# Altium schematic symbol library HauptplatineSchLib.SCHLIB: 50 symbols
Pins are listed as number, name and electrical type; pins without a type are passive.

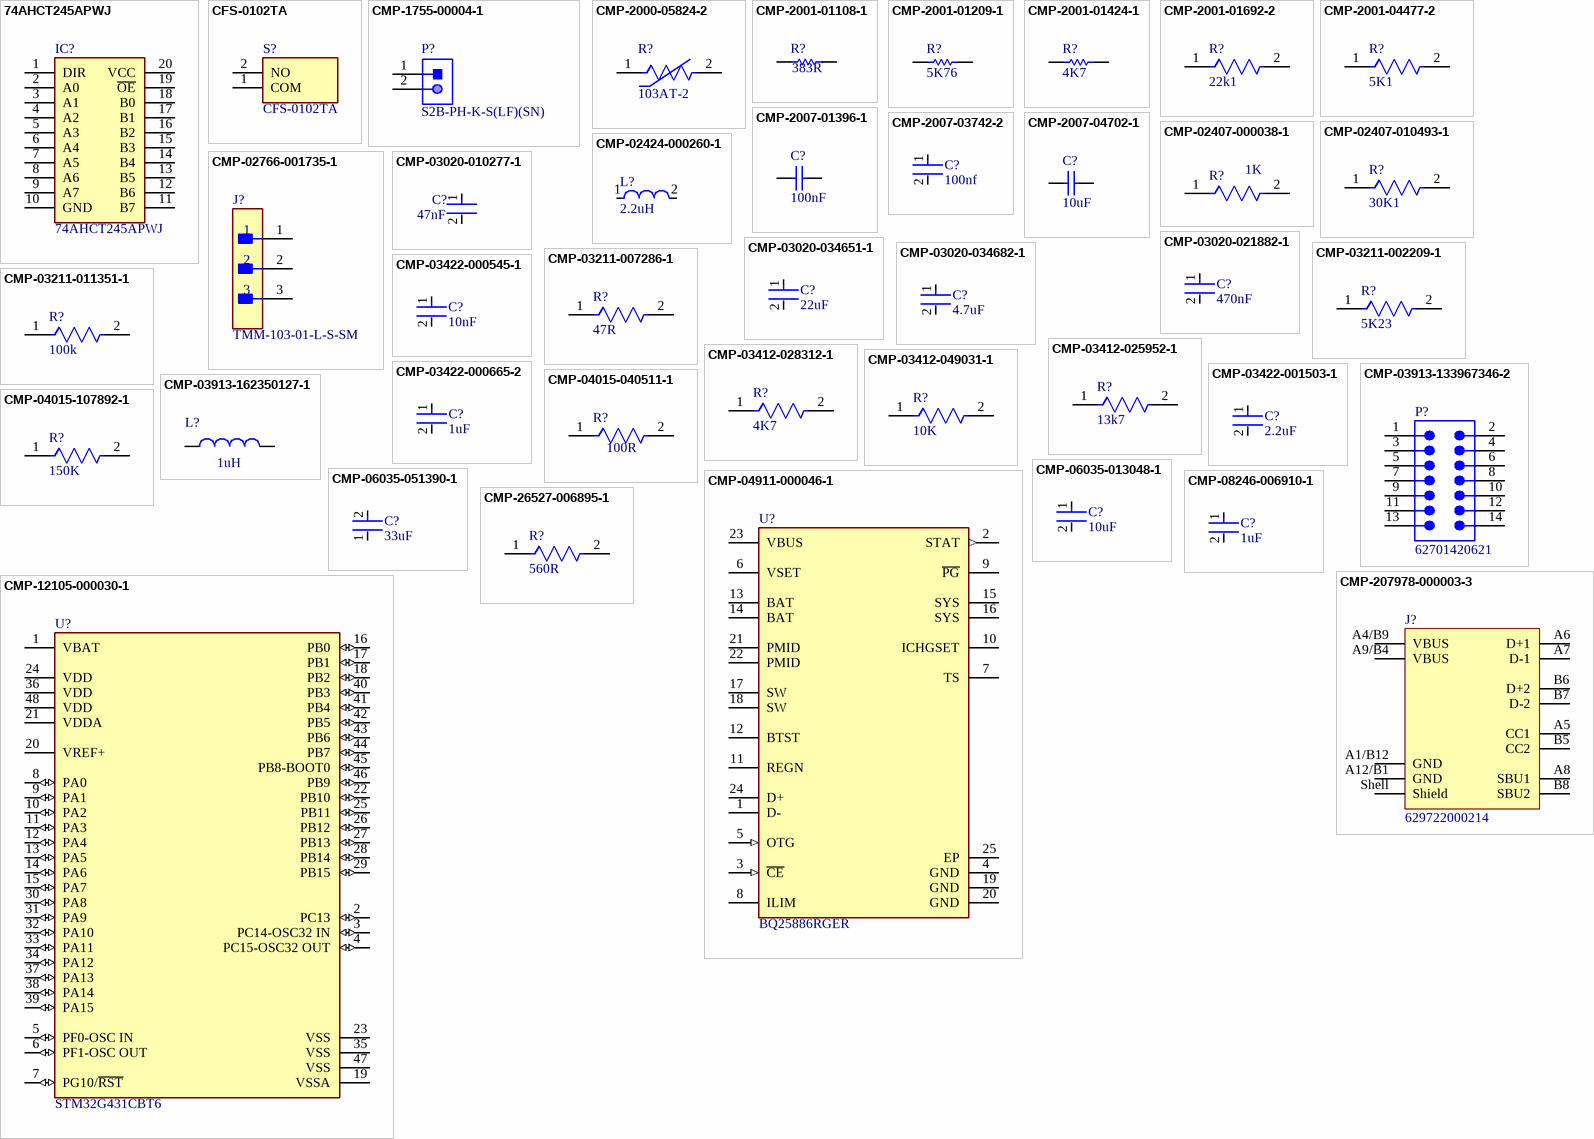
[diagram p0: symbols 74AHCT245APWJ to CMP-207978-000003-3]

## 74AHCT245APWJ
designator IC?
Integrated Circuit; Manufacturer_Name: Nexperia; Datasheet Link: https://assets.nexperia.com/documents/data-sheet/74AHCT245A.pdf; Height: 1.1mm; Manufacturer_Part_Number: 74AHCT245APWJ; Mouser Part Number: 771-74AHCT245APWJ; Mouser Price/Stock: https://www.mouser.co.uk/ProductDetail/Nexperia/74AHCT245APWJ?qs=u4fy%2FsgLU9Nfcswc3zVmFw%3D%3D; Arrow Part Number: 74AHCT245APWJ; Arrow Price/Stock: https://www.arrow.com/en/products/74ahct245apwj/nexperia
footprint SOP65P640X110-20N
pins: 1 DIR, 2 A0, 3 A1, 4 A2, 5 A3, 6 A4, 7 A5, 8 A6, 9 A7, 10 GND, 11 B7, 12 B6, 13 B5, 14 B4, 15 B3, 16 B2, 17 B1, 18 B0, 19 ~{OE}, 20 VCC

## CFS-0102TA
designator S?
Switch; Manufacturer_Name: Nidec Copal; Datasheet Link: https://www.mouser.at/datasheet/2/972/cfs-1628139.pdf; Height: 4.5mm; Manufacturer_Part_Number: CFS-0102TA; Mouser Part Number: 229-CFS-0102TA; Mouser Price/Stock: https://www.mouser.co.uk/ProductDetail/Nidec-Components/CFS-0102TA?qs=XeJtXLiO41Qa%2Fz7Gp%252BxLVg%3D%3D
footprint CFS0102TA
pins: 1 COM, 2 NO

## CMP-1755-00004-1
designator P?, comment S2B-PH-K-S(LF)(SN)
Male Header, Pitch 2 mm, 1 x 2 Position, Height 4.8 mm, Tail Length 3.4 mm, -25 to 85 degC, RoHS, Bulk; Case\Package: Radial; Tolerance: 20%; Capacitance: 10 uF; Voltage Rating (DC): 50 V; Packaging: Bulk; ComponentLink1URL: http://www.jst-mfg.com/product/pdf/eng/ePH.pdf; Radiation Hardening: No; Height: 11 mm; Package Quantity: 200; PackageDescription: Male Header, Pitch 2 mm, 1 x 2 Position, Height 4.8 mm, Tail Length 3.4 mm; PackageReference: S2B-PH-K-S; Diameter: 5 mm; Pins: 2; Mount: Through Hole; Max Operating Temperature: 85 degC; Min Operating Temperature: -40 degC; ComponentLink1Description: Datasheet; DatasheetVersion: Dec-12; Length: 11 mm; Lead Pitch: 2 mm; REACH SVHC: No SVHC; Voltage Rating: 50 V; RoHSCompliant: true
footprint JST-S2B-PH-K-S_V (THD, 2-Leads, Body 7.6x5.9mm, Pitch 2mm)
pins: 1, 2

## CMP-2000-05824-2
designator R?, comment 103AT-2
Thermistor NTC 10KOhm 1% 2-Pin; Resistance: 10kR; Lead Pitch: 2.54mm; Height: 2.4mm; Max Operating Temperature: 110°C; Width: 3.7mm; RoHS Compliant: Yes; Min Operating Temperature: -50°C; Termination: Radial; Packaging: Bulk; Number of Pins: 2; Series: AT; Tolerance: 1%; Length: 17mm
footprint FP-103AT-2-MFG
pins: 1, 2

## CMP-2001-01108-1
designator R?, comment 383R
Part Number: RC0805FR-07383RL; Manufacturer: Yageo
footprint RESC2013X60X35LL10T20 (Chip Resistor, 2-Leads, Body 2.00x1.25mm, IPC High Density)
footprint RESC2013X60X35ML10T20 (Chip Resistor, 2-Leads, Body 2.00x1.25mm, IPC Low Density)
footprint RESC2013X60X35NL10T20 (Chip Resistor, 2-Leads, Body 2.00x1.25mm, IPC Medium Density)
pins: 1, 2
1 alternate drawing of the same symbol

## CMP-2001-01209-1
designator R?, comment 5K76
Part Number: RC0805FR-075K76L; Manufacturer: Yageo
footprint RESC2013X60X35ML10T20 (Chip Resistor, 2-Leads, Body 2.00x1.25mm, IPC Low Density)
footprint RESC2013X60X35LL10T20 (Chip Resistor, 2-Leads, Body 2.00x1.25mm, IPC High Density)
footprint RESC2013X60X35NL10T20 (Chip Resistor, 2-Leads, Body 2.00x1.25mm, IPC Medium Density)
pins: 1, 2
1 alternate drawing of the same symbol

## CMP-2001-01424-1
designator R?, comment 4K7
Manufacturer: Yageo; Part Number: RC0805JR-134K7L
footprint RESC2013X60X35NL10T20 (Chip Resistor, 2-Leads, Body 2.00x1.25mm, IPC Medium Density)
footprint RESC2013X60X35ML10T20 (Chip Resistor, 2-Leads, Body 2.00x1.25mm, IPC Low Density)
footprint RESC2013X60X35LL10T20 (Chip Resistor, 2-Leads, Body 2.00x1.25mm, IPC High Density)
pins: 1, 2
1 alternate drawing of the same symbol

## CMP-2001-01692-2
designator R?, comment 22k1
RES SMD 22.1K OHM 0.1% 1/8W 0805; Manufacturer Part Number: RT0805BRD0722K1L; Manufacturer: Yageo; Temperature Coefficient: 25 ppm/°C; Voltage Rating: 150V; Tolerance: 0.0025; Resistance: 22.1KΩ; Value: 22.1KΩ; Power Rating: 0.125W; Lead Free: Yes; Series: RT; Digikey Description: RES SMD 22.1K OHM 0.1% 1/8W 0805; Mouser Description: Thin Film Resistors - SMD 1/8W 22.1K ohm .1% 25ppm; Device Class L3: Chip SMD Resistors; ComponentLink2URL: http://www.yageo.com/documents/recent/PYu-RT_1-to-0.01_RoHS_L_9.pdf; Octopart: https://octopart.com/rt0805brd0722k1l-yageo-1447960; ComponentLink2Description: Datasheet; Temperature Range High: +155°C; Height: 0.6mm; Composition: Thin Film; Temperature Range Low: -55°C; RoHS: TRUE; Device Class L2: Resistors; Automotive: No; Ipc Land Pattern Name: RESC200125X50; Device Class L1: Passive Components; Temperature: -55°C to +155°C; Category: Res; Package: RT0805; Footprint Url: http://www.yageo.com/exep/pages/download/literatures/PYu-R_Mount_10.pdf
footprint FP-RT0805-MFG
footprint FP-RT0805-IPC_C
footprint FP-RT0805-IPC_B
footprint FP-RT0805-IPC_A
pins: 1, 2

## CMP-2001-04477-2
designator R?, comment 5K1
RES SMD 5.1K OHM 5% 1/8W 0805; Manufacturer: Yageo; Manufacturer Part Number: AC0805JR-075K1L; Automotive Grade: Grade 0; Value: 5.1KΩ; Voltage Rating: 150V; Tolerance: 0.05; Category: Res; RoHS: TRUE; Automotive: Yes; Device Class L1: Passive Components; Lead Free: Yes; Octopart: https://octopart.com/ac0805jr-075k1l-yageo-21711115; Series: AC; Temperature Range High: +155°C; ComponentLink2URL: http://www.yageo.com/documents/recent/PYu-AC_51_RoHS_L_6.pdf; Temperature Range Low: -55°C; ComponentLink2Description: Datasheet; Footprint Url: http://www.yageo.com/exep/pages/download/literatures/PYu-R_Mount_10.pdf; Mouser Description: Thick Film Resistors - SMD 5.1K ohm 5% 1/8W; Device Class L3: Chip SMD Resistors; Digikey Description: RES SMD 5.1K OHM 5% 1/8W 0805; Power Rating: 1/8W; Package: AC0805; Temperature: -55°C to +155°C; Device Class L2: Resistors; Resistance: 5.1KΩ; Height: 0.6mm; Ipc Land Pattern Name: RESC200125X50; Composition: Thick Film
footprint FP-AC0805-MFG
footprint FP-AC0805-IPC_C
footprint FP-AC0805-IPC_B
footprint FP-AC0805-IPC_A
pins: 1, 2

## CMP-2007-01396-1
designator C?, comment 100nF
Part Number: VJ0805Y104JXXPW1BC; Manufacturer: Vitramon
footprint CAPC2013X145X50LL20T20 (Chip Capacitor, 2-Leads, Body 2.00x1.25mm, IPC High Density)
footprint CAPC2013X145X50NL20T20 (Chip Capacitor, 2-Leads, Body 2.00x1.25mm, IPC Medium Density)
footprint CAPC2013X145X50ML20T20 (Chip Capacitor, 2-Leads, Body 2.00x1.25mm, IPC Low Density)
pins: 1, 2
1 alternate drawing of the same symbol

## CMP-2007-03742-2
designator C?, comment 100nf
CAP CER 0.1UF 50V Z5U 0805; Dielectric Material: Ceramic; Tolerance: 20%; Dissipation Factor: 4%; Height: 0.78mm; Dielectric: Z5U; REACH SVHC: No SVHC; Min Operating Temperature: 10°C; Lead Pitch: 0.75mm; Construction: Flat; Mount: Surface Mount; Max Operating Temperature: 85°C; RoHS Compliant: Yes; Width: 1.2mm; Contact Plating: Tin; Thickness: 0.035inch; Series: C; Capacitance: 100nF; Packaging: Tape and Reel; Package Quantity: 1; Voltage Rating (DC): 50V; Termination: SMD/SMT; Voltage: 50V; Case Code (Metric): 2012; Depth: 1.25mm; Radiation Hardening: No; Case/Package: 0805; Length: 2mm; Case Code (Imperial): 0805; Voltage Rating: 50V; Number of Pins: 2; Lead Free: Lead Free
footprint FP-C0805C104M5UACTU-MFG
footprint FP-C0805C104M5UACTU-IPC_C
footprint FP-C0805C104M5UACTU-IPC_B
footprint FP-C0805C104M5UACTU-IPC_A
pins: 1, 2

## CMP-2007-04702-1
designator C?, comment 10uF
Manufacturer: AVX Interconnect / Elco; Part Number: 0805ZC106KAT2A
footprint CAPC2013X140X50ML20T25 (Chip Capacitor, 2-Leads, Body 2.00x1.25mm, IPC Low Density)
footprint CAPC2013X140X50LL20T25 (Chip Capacitor, 2-Leads, Body 2.00x1.25mm, IPC High Density)
footprint CAPC2013X140X50NL20T25 (Chip Capacitor, 2-Leads, Body 2.00x1.25mm, IPC Medium Density)
pins: 1, 2
1 alternate drawing of the same symbol

## CMP-02407-000038-1
designator R?, comment 1K
RES SMD 1K OHM 0.1% 1W 0805; Manufacturer Part Number: PCAN0805E1001BST5; Manufacturer: Vishay; Resistance: 1kΩ; Voltage Rating: 100V; Temperature Coefficient: 25ppm/°C; Value: 1kΩ; Power Rating: 1W; Tolerance: 0.1%; Temperature: -55°C to +155°C; Digikey Description: RES SMD 1K OHM 0.1% 1W 0805; Height: 0.018inch; RoHS: TRUE; Temperature Range Low: -55°C; ComponentLink2Description: Datasheet; Ipc Land Pattern Name: RESC203127X38; Composition: Thin Film; ComponentLink2URL: https://www.vishay.com/docs/60125/pcan.pdf; Lead Free: Yes; Octopart: https://octopart.com/pcan0805e1001bst5-vishay-73274806; Device Class L3: Chip SMD Resistors; Package: PCAN0805; Series: PCAN; Temperature Range High: +155°C; Device Class L1: Passive Components; Automotive: No; Category: Res; Device Class L2: Resistors
footprint FP-PCAN0805-MFG
footprint FP-PCAN0805-IPC_C
footprint FP-PCAN0805-IPC_B
footprint FP-PCAN0805-IPC_A
pins: 1, 2

## CMP-02407-010493-1
designator R?, comment 30K1
RES 1.05K OHM 0.5% 1/5W 0805; Tolerance: 0.1%; Max Power Dissipation: 125mW; Resistance: 30.1kR; Temperature Coefficient: 25ppm/°C; Package Quantity: 1000; Military Standard: Not; Case/Package: 0805; Max Operating Temperature: 125°C; Number of Terminations: 2; Radiation Hardening: No; Composition: Thin Film; Lead Free: Lead Free; Height: 0.022inch; Min Operating Temperature: -55°C; Contact Plating: Tin; Length: 0.079inch; Width: 0.049inch; Depth: 1.25mm; Packaging: Tape and Reel
footprint FP-MCU0805-IPC_C
footprint FP-MCU0805-IPC_A
footprint FP-MCU0805-IPC_B
footprint FP-MCU0805-MFG
pins: 1, 2

## CMP-02424-000260-1
designator L?, comment 2.2uH
Fixed Inductors Commercial Low DCR Series 2.2uH 5A 37.7mΩ 20%; Test Frequency: 100kHz; Self Resonant Frequency: 41MHz; Shielding: Shielded; Saturation Current: 5.5A; DC Resistance (DCR): 37.7mR; Core Material: Metal; RMS Current (Irms): 5A; Case/Package: 2020; Width: 0.204inch; Inductance: 2.2uH; Height - Seated (Max): 0.079inch; Package Quantity: 2000; Length: 5.74mm; Inductance Tolerance: 20%; Tolerance: 20%; Height: 2mm; Min Operating Temperature: -55°C; Termination: SMD/SMT; Current Rating: 5A; Mount: Surface Mount; Max DC Current: 5.5A; Packaging: Tape and Reel; Number of Pins: 2; Max Operating Temperature: 125°C; Depth: 5.43mm; Military Standard: Not; Radiation Hardening: No; Contact Plating: Tin; Lead Free: Lead Free
footprint FP-IHLP-2020BZ-FP_1_905x2-MFG
pins: 1, 2

## CMP-02766-001735-1
designator J?, comment TMM-103-01-L-S-SM
CONN HEADER SMD 3POS 2MM; Number of Positions: 3; Max Current Rating: 3.9A; Gender: Male; Max Voltage Rating (AC): 500V; Packaging: Bulk; Housing Color: Black; Connector Type: Header; Min Operating Temperature: -55°C; Contact Plating: Gold; Radiation Hardening: No; Insulation Color: Black; Housing Material: Polymer; Contact Shape: Square; Max Operating Temperature: 125°C; Fastening Type: Pull; Termination: Solder; Depth: 1.97mm; Series: TMM; Number of Contacts: 3; Contact Material: Bronze; RoHS Compliant: Yes; REACH SVHC: No SVHC; Contact Type: Male Pin; Pitch: 2mm; Insulation Material: Polymer; Lead Free: Lead Free; Orientation: Straight; Flammability Rating: UL94 V-0; Length: 6mm; Number of Rows: 1; Contact Finish - Mating: GOLD
footprint FP-TMM-103-01-L-S-SM-MFG
pins: 1, 2, 3

## CMP-03020-010277-1
designator C?, comment 47nF
CAP CER 0.047UF 50V X8R 1206; Manufacturer: KEMET; Manufacturer Part Number: C1206C473K5HACTU; Temperature Coefficient: 15%; Value: 47,000 pF; Tolerance: 0.1; Automotive Grade: Grade 0; Material: Ceramic; Mouser Description: Multilayer Ceramic Capacitors MLCC - SMD/SMT 50V 47000pF +/-10% X8R; Temperature: -55°C to +150°C; Digikey Description: CAP CER 0.047UF 50V X8R 1206; Package: C1206C-EB; Automotive: Yes; Category: Cap; ComponentLink2Description: Datasheet; Capacitance: 47,000 pF; Device Class L3: Ceramic Capacitors; ComponentLink2URL: https://content.kemet.com/datasheets/KEM_C1007_X8R_ULTRA_150C_SMD.pdf; Device Class L1: Passive Components; Temperature Range Low: -55°C; Device Class L2: Capacitors; RoHS: TRUE; Voltage Rating: 50 V; Octopart: https://octopart.com/c1206c473k5hactu-kemet-12793246; Temperature Range High: +150°C; Ipc Land Pattern Name: CAPC320160X78; Lead Free: Yes; Temperature Characteristic: X8R; Height: 0.88mm
footprint FP-C1206C-EB-MFG
footprint FP-C1206C-EB-IPC_C
footprint FP-C1206C-EB-IPC_B
footprint FP-C1206C-EB-IPC_A
pins: 1, 2

## CMP-03020-021882-1
designator C?, comment 470nF
CAP CER 0.47UF 25V X7R 0805; Manufacturer: KEMET; Manufacturer Part Number: C0805C474J3RACAUTO; Value: 0.47 μF; Tolerance: 0.05; Material: Ceramic; Temperature Coefficient: 30ppm/°C; Temperature Characteristic: X7R; Temperature: -55°C to +125°C; Category: Cap; Temperature Range Low: -55°C; Ipc Land Pattern Name: CAPC200125X78; Temperature Range High: +125°C; Device Class L2: Capacitors; ComponentLink2URL: https://content.kemet.com/datasheets/KEM_C1003_C0G_SMD.pdf; Height: 0.88mm; Package: C0805C-DN; Device Class L1: Passive Components; Capacitance: 0.47 μF; Lead Free: Yes; Octopart: https://octopart.com/c0805c474j3racauto-kemet-20760776; Device Class L3: Ceramic Capacitors; Automotive: No; ComponentLink2Description: Datasheet; Voltage Rating: 25 V; Digikey Description: CAP CER 0.47UF 25V X7R 0805; RoHS: TRUE
footprint FP-C0805C-DN-MFG
footprint FP-C0805C-DN-IPC_C
footprint FP-C0805C-DN-IPC_B
footprint FP-C0805C-DN-IPC_A
pins: 1, 2

## CMP-03020-034651-1
designator C?, comment 22uF
CAP CER 22UF 16V X7R 1210; Dielectric Material: Ceramic; Tolerance: 10%; Dissipation Factor: 5%; Case Code (Imperial): 1210; Capacitance: 22uF; Height: 2.5mm; Termination: SMD/SMT; Package Quantity: 1000; Voltage Rating (DC): 16V; Voltage: 16V; Depth: 2.5mm; Case Code (Metric): 3225; Mount: Surface Mount; Packaging: Cut Tape; Dielectric: X7R; Length: 3.2mm; REACH SVHC: No SVHC; Case/Package: 1210; Min Operating Temperature: -55°C; Voltage Rating: 16V; Max Operating Temperature: 125°C; Weight: 0.000564oz; Width: 0.098inch; Thickness: 0.11inch
footprint FP-C1210C226K4RACTU-MFG
footprint FP-C1210C226K4RACTU-IPC_C
footprint FP-C1210C226K4RACTU-IPC_B
footprint FP-C1210C226K4RACTU-IPC_A
pins: 1, 2

## CMP-03020-034682-1
designator C?, comment 4.7uF
CAP CER 0805 4.7UF 25V X7R  10%; RoHS Compliant: Yes
footprint FP-C0805C475K3RACAUTO-MFG
footprint FP-C0805C475K3RACAUTO-IPC_C
footprint FP-C0805C475K3RACAUTO-IPC_B
footprint FP-C0805C475K3RACAUTO-IPC_A
pins: 1, 2

## CMP-03211-002209-1
designator R?, comment 5K23
RP73P 0805 5.23KΩ 0.25W 25ppm/°C 0.10% 150V; Manufacturer: TE Connectivity; Manufacturer Part Number: RP73PF2A5K23BTDF; Tolerance: 0.001; ComponentLink2URL: https://www.te.com/commerce/DocumentDelivery/DDEController?Action=srchrtrv&DocNm=1773272&DocType=DS&DocLang=English; Device Class L1: Passive Components; Device Class L2: Resistors; Lead Free: Yes; Temperature Range High: +155°C; Series: RP73P; Resistance: 5.23KΩ; ComponentLink2Description: Datasheet; Composition: Thin Film; Octopart: https://octopart.com/rp73pf2a5k23btdf-te+connectivity-45467027; Device Class L3: Chip SMD Resistors; Temperature Coefficient: 25ppm/°C; Category: Res; Temperature: -55°C to +155°C; Automotive: No; Temperature Range Low: -55°C; Package: RP73P-2A; Ipc Land Pattern Name: RESC200125X55; Voltage Rating: 150V; Power Rating: 0.25W; Height: 0.65mm; RoHS: TRUE; Value: 5.23KΩ
footprint FP-RP73P-2A-MFG
footprint FP-RP73P-2A-IPC_C
footprint FP-RP73P-2A-IPC_B
footprint FP-RP73P-2A-IPC_A
pins: 1, 2

## CMP-03211-007286-1
designator R?, comment 47R
CRGP1206 47Ω 0.5W ±100ppm/°C 1% 200V; Manufacturer Part Number: CRGP1206F47R; Manufacturer: TE; Tolerance: 0.01; RoHS: TRUE; Value: 47Ω; Voltage Rating: 200V; Temperature: -55°C to +155°C; Mouser Description: SMD Precision Pulse Thick Film Chip Resistor; Temperature Coefficient: ±100ppm/°C; Power Rating: 0.5W; Device Class L1: Passive Components; Ipc Land Pattern Name: RESC310155X55; Composition: Thick Film; ComponentLink2URL: https://www.mouser.com/datasheet/2/418/NG_DS_9-1773463-9_A-1358566.pdf; Ambient Temperature Range High: +70°C; Lead Free: Yes; Temperature Range Low: -55°C; Resistance: 47Ω; Octopart: https://octopart.com/crgp1206f47r-te+connectivity-91018885; Temperature Range High: +155°C; Automotive: No; Height: 0.65mm; Device Class L2: Resistors; Package: CRGP1206; Category: Res; ComponentLink2Description: Datasheet; Device Class L3: Chip SMD Resistors; Series: CRGP
footprint FP-CRGP1206-IPC_C
footprint FP-CRGP1206-IPC_B
footprint FP-CRGP1206-IPC_A
pins: 1, 2

## CMP-03211-011351-1
designator R?, comment 100k
RQ73 0805 100KΩ 0.2W 10ppm/°C 0.1% 100V
footprint FP-RQ73C2A-IPC_B
footprint FP-RQ73C2A-IPC_A
footprint FP-RQ73C2A-IPC_C
pins: 1, 2

## CMP-03412-025952-1
designator R?, comment 13k7
RES 13.7K OHM 1/8W .1% SMD 0805; Manufacturer Part Number: RT0805BRD0713K7L; Manufacturer: Yageo; Power Rating: 0.125W; Tolerance: 0.0025; Value: 13.7KΩ; Voltage Rating: 150V; Temperature Coefficient: 25 ppm/°C; Device Class L3: Chip SMD Resistors; Temperature Range High: +155°C; Digikey Description: RES 13.7K OHM 1/8W .1% SMD 0805; ComponentLink2Description: Datasheet; Package: RT0805; RoHS: TRUE; ComponentLink2URL: http://www.yageo.com/documents/recent/PYu-RT_1-to-0.01_RoHS_L_9.pdf; Automotive: No; Lead Free: Yes; Device Class L1: Passive Components; Temperature: -55°C to +155°C; Category: Res; Ipc Land Pattern Name: RESC200125X50; Octopart: https://octopart.com/rt0805brd0713k7l-yageo-1409410; Height: 0.6mm; Resistance: 13.7KΩ; Footprint Url: http://www.yageo.com/exep/pages/download/literatures/PYu-R_Mount_10.pdf; Series: RT; Temperature Range Low: -55°C; Composition: Thin Film; Mouser Description: Thin Film Resistors - SMD 1/8W 13.7K ohm .1% 25ppm; Device Class L2: Resistors
footprint FP-RT0805-MFG
footprint FP-RT0805-IPC_C
footprint FP-RT0805-IPC_B
footprint FP-RT0805-IPC_A
pins: 1, 2

## CMP-03412-028312-1
designator R?, comment 4K7
RES SMD 47K OHM 1% 1/8W 0805; Manufacturer Part Number: RT0805FRD0747KL; Manufacturer: Yageo; Resistance: 47KΩ; Voltage Rating: 150V; Power Rating: 0.125W; Tolerance: 0.0001; Temperature Coefficient: 25 ppm/°C; Value: 47KΩ; Footprint Url: http://www.yageo.com/exep/pages/download/literatures/PYu-R_Mount_10.pdf; Series: RT; Ipc Land Pattern Name: RESC200125X50; Device Class L3: Chip SMD Resistors; Digikey Description: RES SMD 47K OHM 1% 1/8W 0805; ComponentLink2URL: http://www.yageo.com/documents/recent/PYu-RT_1-to-0.01_RoHS_L_9.pdf; Octopart: https://octopart.com/rt0805frd0747kl-yageo-71400071; Device Class L2: Resistors; Temperature Range Low: -55°C; Composition: Thin Film; RoHS: TRUE; Automotive: No; ComponentLink2Description: Datasheet; Package: RT0805; Temperature Range High: +155°C; Lead Free: Yes; Category: Res; Temperature: -55°C to +155°C; Device Class L1: Passive Components; Height: 0.6mm
footprint FP-RT0805-MFG
footprint FP-RT0805-IPC_C
footprint FP-RT0805-IPC_B
footprint FP-RT0805-IPC_A
pins: 1, 2

## CMP-03412-049031-1
designator R?, comment 10K
Thin Film Chip Resistors Automotive Grade 10kΩ 0.5% 50ppm/°C 0805; Max Power Dissipation: 125mW; Resistance: 10kR; Ratings: AEC-Q200; Length: 0.079inch; Temperature Coefficient: 50ppm/°C; Height: 0.024inch; Min Operating Temperature: -55°C; Case/Package: 0805; Tolerance: 0.5%; RoHS Compliant: Yes; Features: Moisture Resistant; Number of Terminations: 2; Max Operating Temperature: 155°C; Series: AT; Packaging: Tape and Reel; Width: 0.049inch; Resistor Type: Thin Film
footprint FP-AT0805-MFG
footprint FP-AT0805-IPC_C
footprint FP-AT0805-IPC_B
footprint FP-AT0805-IPC_A
pins: 1, 2

## CMP-03422-000545-1
designator C?, comment 10nF
AC Series 0805 10 nF 100 V ±10% X7R Multilayer Ceramic Capacitor; Manufacturer: Yageo; Manufacturer Part Number: AC0805KRX7R0BB103; Temperature Coefficient: 15%; Automotive Grade: Grade 1; Tolerance: 0.1; Voltage Rating: 100 V; Capacitance: 10 nF; Lead Free: Yes; RoHS: TRUE; Temperature Range Low: -55°C; ComponentLink2URL: http://www.yageo.com/documents/recent/UPY-AC_NP0X7R_16V-to-630V_12.pdf; Ipc Land Pattern Name: CAPC200125X85; Footprint Url: http://www.yageo.com/exep/pages/download/literatures/UPY-C_GEN_24.pdf; Octopart: https://octopart.com/ac0805krx7r0bb103-yageo-75656636; Temperature Characteristic: X7R; Value: 10 nF; Device Class L2: Capacitors; Package: AC0805-0.85; Device Class L1: Passive Components; Category: Cap; Temperature: -55°C to +125°C; ComponentLink2Description: Datasheet; Mouser Description: AC Series 0805 10 nF 100 V ±10% X7R Multilayer Ceramic Capacitor; Automotive: Yes; Digikey Description: AC Series 0805 10 nF 100 V ±10% X7R Multilayer Ceramic Capacitor; Device Class L3: Ceramic Capacitors; Material: Ceramic; Temperature Range High: +125°C; Height: 0.95mm
footprint FP-AC0805-0_85-MFG
footprint FP-AC0805-0_85-IPC_C
footprint FP-AC0805-0_85-IPC_B
footprint FP-AC0805-0_85-IPC_A
pins: 1, 2

## CMP-03422-000665-2
designator C?, comment 1uF
CAP CER 1UF 6.3V X7R 0805; Tolerance: 10%; Capacitance: 1uF; Weight: 0.000194oz; Width: 0.049inch; Thickness: 0.057inch; Dielectric: X7R; Termination: SMD/SMT; Packaging: Tape and Reel; RoHS Compliant: Yes; Length: 2mm; Halogen Free: Halogen Free; Voltage Rating: 6.3V; Height: 1.25mm; Max Operating Temperature: 125°C; Depth: 1.25mm; Construction: Flat; Case Code (Metric): 2012; Series: CC; Case/Package: 0805; Resistor Type: Ceramic; Case Code (Imperial): 0805; Min Operating Temperature: -55°C; Voltage Rating (DC): 6.3V; Lead Free: Lead Free; Mount: Surface Mount; Radiation Hardening: No
footprint FP-CC0805-EB-MFG
footprint FP-CC0805-EB-IPC_C
footprint FP-CC0805-EB-IPC_B
footprint FP-CC0805-EB-IPC_A
pins: 1, 2

## CMP-03422-001503-1
designator C?, comment 2.2uF
CAP CER 1210; Dielectric: X7R; Tolerance: 10%; Depth: 2.5mm; Max Operating Temperature: 125°C; Capacitance: 2.2uF; RoHS Compliant: Yes; Length: 3.2mm; Min Operating Temperature: -55°C; Case/Package: 1210; Packaging: Tape and Reel
footprint FP-CC1210-G3-MFG
footprint FP-CC1210-G3-IPC_C
footprint FP-CC1210-G3-IPC_B
footprint FP-CC1210-G3-IPC_A
pins: 1, 2

## CMP-03913-133967346-2
designator P?, comment 62701420621
Conn, Hdr, 14Pos, 2Row, 1.27Mm, Smt Rohs Compliant: Yes; Current Rating: 1A; Insulation Resistance: 1GΩ; Max Operating Temperature: 105°C; Min Operating Temperature: -40°C; Number of Pins: 14; RoHS: Compliant; Pitch: 1.27mm; Length: 13.64mm
footprint 62701420621
pins: 1, 2, 3, 4, 5, 6, 7, 8, 9, 10, 11, 12, 13, 14

## CMP-03913-162350127-1
designator L?, comment 1uH
Power Ind, 1UH, 5.8A, Shielded, 1210 Rohs Compliant: Yes
footprint WE-PMFI_322512
pins: 1, 2

## CMP-04015-040511-1
designator R?, comment 100R
100Ω ±0.1% 0.125W, 1/8W Chip Resistor 0805 (2012 Metric) Moisture Resistant Thin Film
footprint FP-RN73R2A-IPC_A
footprint FP-RN73R2A-IPC_B
footprint FP-RN73R2A-MFG
footprint FP-RN73R2A-IPC_C
pins: 1, 2

## CMP-04015-107892-1
designator R?, comment 150K
150kΩ ±1% 0.25W Chip Resistor 0805 Thick Film AEC-Q200 Qualified; Resistance: 150kR; Power Rating: 125mW; Voltage Rating: 150V; Temperature Coefficient: 100ppm/°C; Tolerance: 1%; Series: RK73H; Max Operating Temperature: 155°C; Min Operating Temperature: -55°C; Termination: SMD/SMT; Case/Package: 0805; Lead Free: Lead Free; Case Code (Imperial): 0805; Packaging: Tape and Reel; Voltage Rating (DC): 150V; RoHS Compliant: Yes; Case Code (Metric): 2012
footprint FP-RK73H2A-IPC_B
footprint FP-RK73H2A-IPC_A
footprint FP-RK73H2A-IPC_C
footprint FP-RK73H2A-MFG
pins: 1, 2

## CMP-04911-000046-1
designator U?, comment BQ25886RGER
PWR MGMT BATTERY MGMT
footprint FP-RGE0024H-IPC_C
footprint FP-RGE0024H-MFG
footprint FP-RGE0024H-IPC_A
footprint FP-RGE0024H-IPC_B
pins: 1 D-, 2 STAT (out), 3 ~{CE} (in), 4 GND (power), 5 OTG (in), 6 VSET, 7 TS, 8 ILIM, 9 ~{PG} (oc), 10 ICHGSET, 11 REGN (power), 12 BTST (power), 13 BAT (power), 14 BAT (power), 15 SYS (power), 16 SYS (power), 17 SW (power), 18 SW (power), 19 GND (power), 20 GND (power), 21 PMID (power), 22 PMID (power), 23 VBUS (power), 24 D+, 25 EP (power)

## CMP-06035-013048-1
designator C?, comment 10uF
Chip Multilayer Ceramic Capacitors for General Purpose, 0805, 10uF, X5R, 15%, 20%, 25V; Max Operating Temperature: 85°C; Package Quantity: 3000; Case/Package: 0805; Depth: 1.25mm; Case Code (Imperial): 0805; Termination: SMD/SMT; Width: 0.049inch; Packaging: Tape and Reel; Tolerance: 20%; Height: 1.25mm; Min Operating Temperature: -55°C; Capacitance: 10uF; Weight: 0.000335oz; Voltage Rating (DC): 25V; Dielectric: X5R; Length: 2mm; Thickness: 0.055inch; Voltage Rating: 25V; Resistor Type: Ceramic; Lead Free: Lead Free; Case Code (Metric): 2012; Mount: Surface Mount; REACH SVHC: No SVHC
footprint FP-GRM21B-0_15-IPC_A
footprint FP-GRM21B-0_15-MFG
footprint FP-GRM21B-0_15-IPC_B
footprint FP-GRM21B-0_15-IPC_C
pins: 1, 2

## CMP-06035-051390-1
designator C?, comment 33uF
Cap Ceramic 33uF 25V X7R ±10% SMD 2220 +125°C Emboss T/R
footprint FP-KRM55Q-6_1_5_3_3_9_1_2-MFG
pins: 1, 2

## CMP-08246-006910-1
designator C?, comment 1uF
Cap Ceramic 1uF 16V X7R 10% Pad SMD 0805 +125°C Automotive T/R; Package Quantity: 2000; Min Operating Temperature: -55°C; Dielectric: X7R; Height: 1.25mm; Voltage Rating (DC): 16V; Thickness: 0.049inch; Case Code (Metric): 2012; Mount: Surface Mount; Width: 0.049inch; Case/Package: 0805; Voltage Rating: 16V; Packaging: Tape and Reel; Capacitance: 1uF; RoHS Compliant: Yes; Length: 0.079inch; Ratings: AEC-Q200; Max Operating Temperature: 125°C; Weight: 0.000194oz; Series: CGA; Case Code (Imperial): 0805; Tolerance: 10%
footprint FP-CGA4J-MFG
footprint FP-CGA4J-IPC_C
footprint FP-CGA4J-IPC_A
footprint FP-CGA4J-IPC_B
pins: 1, 2

## CMP-12105-000030-1
designator U?, comment STM32G431CBT6
MAINSTREAM ARM CORTEX-M4+ MCU 17; Manufacturer: STMicroelectronics; Number Of Adc Channels: 17; Number Of I/Os: 38; Standoff Height: 0.05mm; Number Of Usb Channels: 1; Data Bus Width: 32bits; Number Of I2C Channels: 3; Number Of Pwm Channels: 31; Frequency: 170MHz; Memory Type: FLASH; Number Of Timers/Counters: 14; Ram Size: 32KBytes; Max Junction Temp: +105°C; Memory Size: 128KBytes; Min Supply Voltage: 1.62V; Max Supply Voltage: 3.6V; Number Of Uart Channels: 4; Interface: I2C,SPI,UART,USART,CAN,USB,LIN,IrDA,I2S; Temperature Range Low: -40°C; Lead Free: Yes; Device Class L3: Microcontrollers; Number Of Cores: 1; Temperature Range High: +85°C; Height: 1.6mm; Digikey Description: MAINSTREAM ARM CORTEX-M4+ MCU 17; Device Class L1: Integrated Circuits (ICs); Package: LQFP48-5B; RoHS: TRUE; Number Of A/D Converters: 1; Core Architecture: Arm Cortex-M4; Device Class L2: Embedded Processors and Controllers; ComponentLink2Description: Datasheet; Temperature: -40°C to +85°C; Ambient Temperature Range High: +85°C; Ambient Temperature Range Low: -40°C; Octopart: https://octopart.com/stm32g431cbt6-stmicroelectronics-98835224; ComponentLink2URL: https://www.st.com/resource/en/datasheet/stm32g431cb.pdf; Automotive: No; Number Of Spi Channels: 3; Manufacturer Part Number: STM32G431CBT6; Category: IC
footprint FP-LQFP48-5B-MFG
footprint FP-LQFP48-5B-IPC_C
footprint FP-LQFP48-5B-IPC_B
footprint FP-LQFP48-5B-IPC_A
pins: 1 VBAT (power), 2 PC13 (io), 3 PC14-OSC32 IN (io), 4 PC15-OSC32 OUT (io), 5 PF0-OSC IN (io), 6 PF1-OSC OUT (io), 7 PG10/~{RST} (io), 8 PA0 (io), 9 PA1 (io), 10 PA2 (io), 11 PA3 (io), 12 PA4 (io), 13 PA5 (io), 14 PA6 (io), 15 PA7 (io), 16 PB0 (io), 17 PB1 (io), 18 PB2 (io), 19 VSSA (power), 20 VREF+ (power), 21 VDDA (power), 22 PB10 (io), 23 VSS (power), 24 VDD (power), 25 PB11 (io), 26 PB12 (io), 27 PB13 (io), 28 PB14 (io), 29 PB15 (io), 30 PA8 (io), 31 PA9 (io), 32 PA10 (io), 33 PA11 (io), 34 PA12 (io), 35 VSS (power), 36 VDD (power), 37 PA13 (io), 38 PA14 (io), 39 PA15 (io), 40 PB3 (io), 41 PB4 (io), 42 PB5 (io), 43 PB6 (io), 44 PB7 (io), 45 PB8-BOOT0 (io), 46 PB9 (io), 47 VSS (power), 48 VDD (power)

## CMP-26527-006895-1
designator R?, comment 560R
560Ω ±5% 0.125W 0805 Thick Film Chip Resistor AEC-Q200 compliant; Temperature Coefficient: 200ppm/°C; Max Power Dissipation: 125mW; Resistance: 560R; RoHS Compliant: Yes; Military Standard: Not; Case Code (Imperial): 0805; Length: 0.079inch; Mount: Surface Mount; Height: 0.026inch; Max Operating Temperature: 155°C; Resistor Type: Thick Film; Tolerance: 5%; Series: RMCF; Radiation Hardening: No; Min Operating Temperature: -55°C; Lead Free: Lead Free; Construction: Rectangular; Case Code (Metric): 2012; Case/Package: 0805; Features: Automotive AEC-Q200; Packaging: Tape and Reel; Contact Plating: Tin; Depth: 1.25mm; Width: 0.049inch; Number of Terminations: 2
footprint FP-RMCF0805-IPC_A
footprint FP-RMCF0805-MFG
footprint FP-RMCF0805-IPC_B
footprint FP-RMCF0805-IPC_C
pins: 1, 2

## CMP-207978-000003-3
designator J?, comment 629722000214
Usb Conn, R/a, Type C 2.0, Rcpt, 16POS Rohs Compliant: Yes; Number of Contacts: 12; Current Rating: 5A; Insulation Resistance: 100MΩ; USB Standard: USB 2.0; Voltage Rating: 20V; Gender: Receptacle; Pin Length: 950µm; Max Operating Temperature: 85°C; Number of Pins: 16; Height: 3.51mm; Contact Material: Gold, Nickel; Packaging: Tape and Reel; RoHS: Compliant; Min Operating Temperature: -40°C
footprint 629722000214
pins: A1/B12 GND, A4/B9 VBUS, A5 CC1, A6 D+1, A7 D-1, A8 SBU1, A9/B4 VBUS, A12/B1 GND, B5 CC2, B6 D+2, B7 D-2, B8 SBU2, Shell Shield

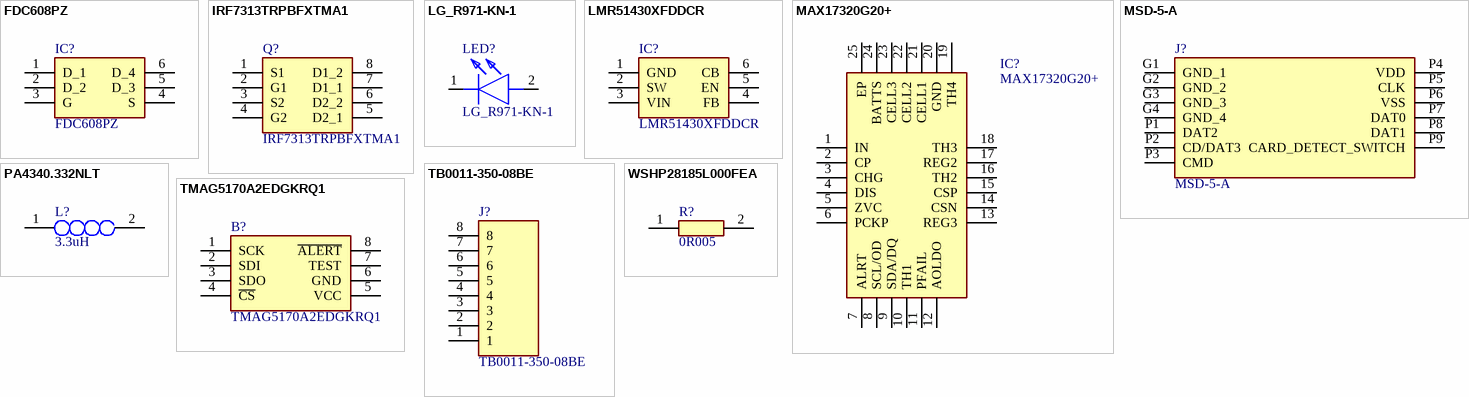
[diagram p1: symbols FDC608PZ to WSHP28185L000FEA]

## FDC608PZ
designator IC?
Integrated Circuit; Manufacturer_Name: onsemi; Datasheet Link: https://www.onsemi.com/pub/Collateral/FDC608PZ-D.PDF; Height: 1.1mm; Manufacturer_Part_Number: FDC608PZ; Mouser Part Number: 512-FDC608PZ; Mouser Price/Stock: https://www.mouser.co.uk/ProductDetail/onsemi-Fairchild/FDC608PZ?qs=cunaKtMgX5PRvFzPztrrbg%3D%3D; Arrow Part Number: FDC608PZ; Arrow Price/Stock: https://www.arrow.com/en/products/fdc608pz/on-semiconductor?utm_currency=USD&region=nac
footprint SOT95P275X110-6N
pins: 1 D_1, 2 D_2, 3 G, 4 S, 5 D_3, 6 D_4

## IRF7313TRPBFXTMA1
designator Q?
MOSFET (N-Channel); Manufacturer_Name: Infineon; Datasheet Link: https://www.mouser.co.uk/datasheet/2/196/Infineon_IRF7313_DataSheet_v01_01_EN-3224007.pdf; Height: 1.75mm; Manufacturer_Part_Number: IRF7313TRPBFXTMA1; Mouser Part Number: 726-IRF7313TRPBFXTMA; Mouser Price/Stock: https://www.mouser.co.uk/ProductDetail/Infineon-Technologies/IRF7313TRPBFXTMA1?qs=1Kr7Jg1SGW%2FUB%252Bqt0Ezjig%3D%3D; Arrow Part Number: IRF7313TRPBFXTMA1; Arrow Price/Stock: https://www.arrow.com/en/products/irf7313trpbfxtma1/infineon-technologies-ag?utm_currency=USD&region=nac
footprint SOIC127P600X175-8N
pins: 1 S1, 2 G1, 3 S2, 4 G2, 5 D2_1, 6 D2_2, 7 D1_1, 8 D1_2

## LG_R971-KN-1
designator LED?
LED; Manufacturer_Name: ams OSRAM; Manufacturer_Part_Number: LG R971-KN-1; Datasheet Link: http://www.mouser.com/ds/2/311/LG R971 - CHIPLED 0805-318376.pdf; Height: 0.8mm; Mouser Part Number: 720-LGR971-KN-1; Mouser Price/Stock: https://www.mouser.co.uk/ProductDetail/ams-OSRAM/LG-R971-KN-1?qs=LsPilcdHE7EX1EB7GCLHxg%3D%3D; Arrow Part Number: LG R971-KN-1; Arrow Price/Stock: https://www.arrow.com/en/products/lgr971-kn-1/osram-opto-semiconductors
footprint LEDC2012X80N
pins: 1 K, 2 A

## LMR51430XFDDCR
designator IC?
Integrated Circuit; Manufacturer_Name: Texas Instruments; Datasheet Link: https://www.ti.com/lit/ds/symlink/lmr51420.pdf?ts=1651317966125; Height: 1.1mm; Manufacturer_Part_Number: LMR51430XFDDCR; Mouser Part Number: 595-LMR51430XFDDCR; Mouser Price/Stock: https://www.mouser.co.uk/ProductDetail/Texas-Instruments/LMR51430XFDDCR?qs=vvQtp7zwQdOoH7ISqkGKmw%3D%3D; Arrow Part Number: LMR51430XFDDCR; Arrow Price/Stock: https://www.arrow.com/en/products/lmr51430xfddcr/texas-instruments.html?utm_currency=USD&region=nac
footprint SOT95P280X110-6N
pins: 1 GND, 2 SW, 3 VIN, 4 FB, 5 EN, 6 CB

## MAX17320G20+
designator IC?
Integrated Circuit; Manufacturer_Name: Analog Devices; Datasheet Link: https://www.analog.com/MAX17320/datasheet; Height: 0.8mm; Manufacturer_Part_Number: MAX17320G20+; Mouser Part Number: 700-MAX17320G20+; Mouser Price/Stock: https://www.mouser.co.uk/ProductDetail/Analog-Devices-Maxim-Integrated/MAX17320G20%2b?qs=sPbYRqrBIVnSGVqLjzq7LQ%3D%3D; Arrow Part Number: MAX17320G20+; Arrow Price/Stock: https://www.arrow.com/en/products/max17320g20/analog-devices?utm_currency=USD&region=nac
footprint QFN50P400X400X80-25N
pins: 1 IN, 2 CP, 3 CHG, 4 DIS, 5 ZVC, 6 PCKP, 7 ALRT, 8 SCL/OD, 9 SDA/DQ, 10 TH1, 11 PFAIL, 12 AOLDO, 13 REG3, 14 CSN, 15 CSP, 16 TH2, 17 REG2, 18 TH3, 19 TH4, 20 GND, 21 CELL1, 22 CELL2, 23 CELL3, 24 BATTS, 25 EP

## MSD-5-A
designator J?
Connector; Manufacturer_Name: Same Sky; Datasheet Link: https://www.sameskydevices.com/product/resource/msd-5-a.pdf; Height: 2.15mm; Manufacturer_Part_Number: MSD-5-A; Mouser Part Number: 179-MSD-5-A; Mouser Price/Stock: https://www.mouser.co.uk/ProductDetail/Same-Sky/MSD-5-A?qs=Z%252BL2brAPG1IFv3XQ8lubzw%3D%3D; Arrow Part Number: MSD-5-A; Arrow Price/Stock: https://www.arrow.com/en/products/msd-5-a/cui-devices?utm_currency=USD&region=nac
footprint MSD5A
pins: G1 GND_1, G2 GND_2, G3 GND_3, G4 GND_4, P1 DAT2, P2 CD/DAT3, P3 CMD, P4 VDD, P5 CLK, P6 VSS, P7 DAT0, P8 DAT1, P9 CARD_DETECT_SWITCH

## PA4340.332NLT
designator L?, comment 3.3uH
Inductor; Manufacturer_Name: Yageo Group; Manufacturer_Part_Number: PA4340.332NLT; Datasheet Link: https://www.arrow.com/en/products/pa4340.332nlt/pulse-electronics-corporation; Height: 3mm; Mouser Part Number: 673-PA4340.332NLT; Mouser Price/Stock: https://www.mouser.co.uk/ProductDetail/Pulse-Electronics/PA4340332NLT?qs=%2FzQKu7YvIMZ40DmrCvsoMQ%3D%3D; Arrow Part Number: PA4340.332NLT; Arrow Price/Stock: https://www.arrow.com/en/products/pa4340.332nlt/pulse-electronics-corporation?utm_currency=USD&region=europe
footprint INDPM6054X300N
pins: 1, 2

## TB0011-350-08BE
designator J?
Connector; Manufacturer_Name: Same Sky; Datasheet Link: https://www.sameskydevices.com/product/resource/tb0011-350.pdf; Height: 8.5mm; Manufacturer_Part_Number: TB0011-350-08BE
footprint TB0011-350-08BE
pins: 1, 2, 3, 4, 5, 6, 7, 8

## TMAG5170A2EDGKRQ1
designator B?
Board Mount Hall Effect/Magnetic Sensors; Manufacturer_Name: Texas Instruments; Geometry.Height: 1.1mm; Mouser Part Number: 595-MAG5170A2EDGKRQ1; Mouser Price/Stock: https://www.mouser.co.uk/ProductDetail/Texas-Instruments/TMAG5170A2EDGKRQ1?qs=doiCPypUmgFsK4QjDrwHCw%3D%3D; Manufacturer_Part_Number: TMAG5170A2EDGKRQ1; Datasheet Link: https://www.ti.com/lit/gpn/tmag5170-q1
footprint SOP65P490X110-8N
pins: 1 SCK, 2 SDI, 3 SDO, 4 ~{CS}, 5 VCC, 6 GND, 7 TEST, 8 ~{ALERT}

## WSHP28185L000FEA
designator R?, comment 0R005
Resistor; Manufacturer_Name: Vishay; Manufacturer_Part_Number: WSHP28185L000FEA; Datasheet Link: https://componentsearchengine.com/Datasheets/1/WSHP28185L000FEA.pdf; Height: 1.75mm; Mouser Part Number: 71-WSHP28185L000FEA; Mouser Price/Stock: https://www.mouser.co.uk/ProductDetail/Vishay-Dale/WSHP28185L000FEA?qs=WY0B%252Bpw29jOU8WmnTnxtZg%3D%3D; Arrow Part Number: WSHP28185L000FEA; Arrow Price/Stock: https://www.arrow.com/en/products/wshp28185l000fea/vishay?utm_currency=USD&region=nac
footprint RESC7146X175N
pins: 1, 2